# EAGLE library part RJ45 (library WakamelibGOOD)
RJ45 Ethernet
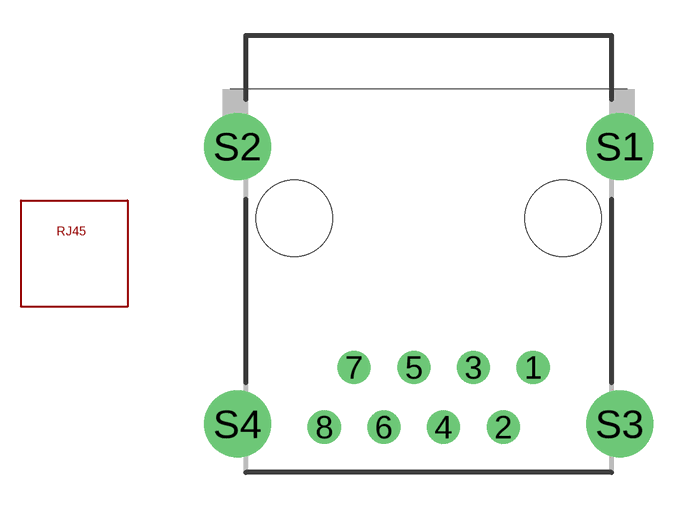
[diagram p14: symbol with the pads of RJ45-SHIELD1; footprint RJ45-SHIELD1]

Designator prefix -

## RJ45  [RJ45-SHIELD1]
1  P$1
2  P$2
3  P$3
4  P$4
5  P$5
6  P$6
7  P$7
8  P$8

## Footprint RJ45-SHIELD1 (pad centres in mm)
RJ45 Low Profile Shield Type 1 For all RJ45 N and Z Series Models Source: www.tycoelectronics.com .. ENG_DS_1654001_1099_RJ_L_0507.pdf
drill 0.9 pad 1.4: 1 -3.175,1.27; 2 -4.445,-1.27; 3 -5.715,1.27; 4 -6.985,-1.27; 5 -8.255,1.27; 6 -9.525,-1.27; 7 -10.795,1.27; 8 -12.065,-1.27
drill 1.9 pad 2.5: S1 0.508,10.668; S2 -15.748,10.668; S3 0.508,-1.14; S4 -15.748,-1.14
hole 3.251 at -1.905,7.62
hole 3.251 at -13.335,7.62